# Altium footprint library su_03t.PcbLib: 1 footprints
Each footprint in its own frame and in the unit in brackets; x right, y up, seen from the top. Pads: shape width x height; smd on the part's side, far side on the other; paste and mask are expansions set on the pad; w line width, h text height; cw(c..) or ccw(c..) is an arc to the next point about the centre after c.
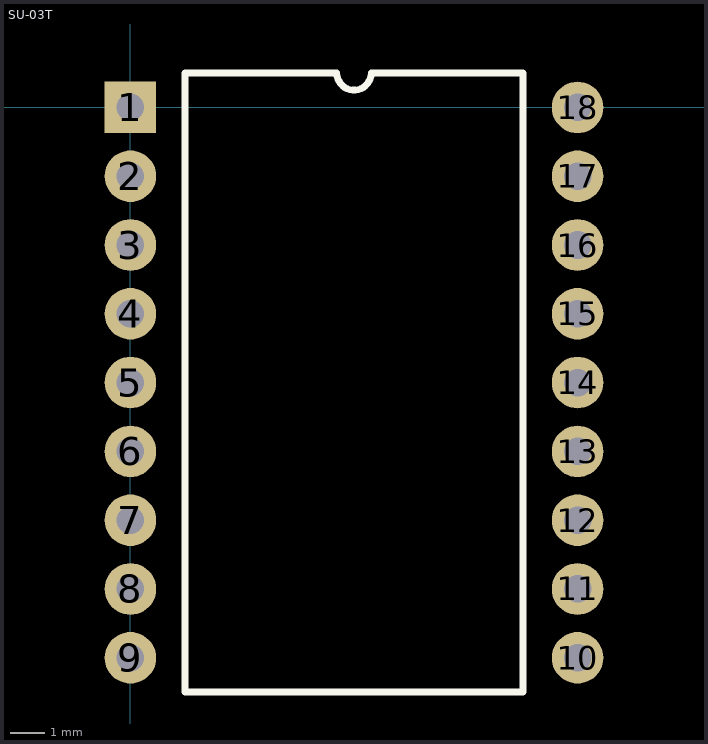
[diagram p0: the footprint, top view; thin cyan lines are the x and y axes]

## SU-03T [mm]
pads (18):
  rect 1.5x1.5 hole 0.8: 1(0,0)
  round 1.5 hole 0.8: 2(0,-2) 3(0,-4) 4(0,-6) 5(0,-8) 6(0,-10) 7(0,-12) 8(0,-14) 9(0,-16) 10(13,-16) 11(13,-14) 12(13,-12) 13(13,-10) 14(13,-8) 15(13,-6) 16(13,-4) 17(13,-2) 18(13,0)
Top Overlay:
  lines w0.2: 1.585,-17 11.415,-17 11.415,1 7,1 cw(c6.5,1) 6,1 1.585,1 1.585,-17